# Altium integrated library Librería.IntLib: 116 symbols
Pins are listed as number, name and electrical type; pins without a type are passive.

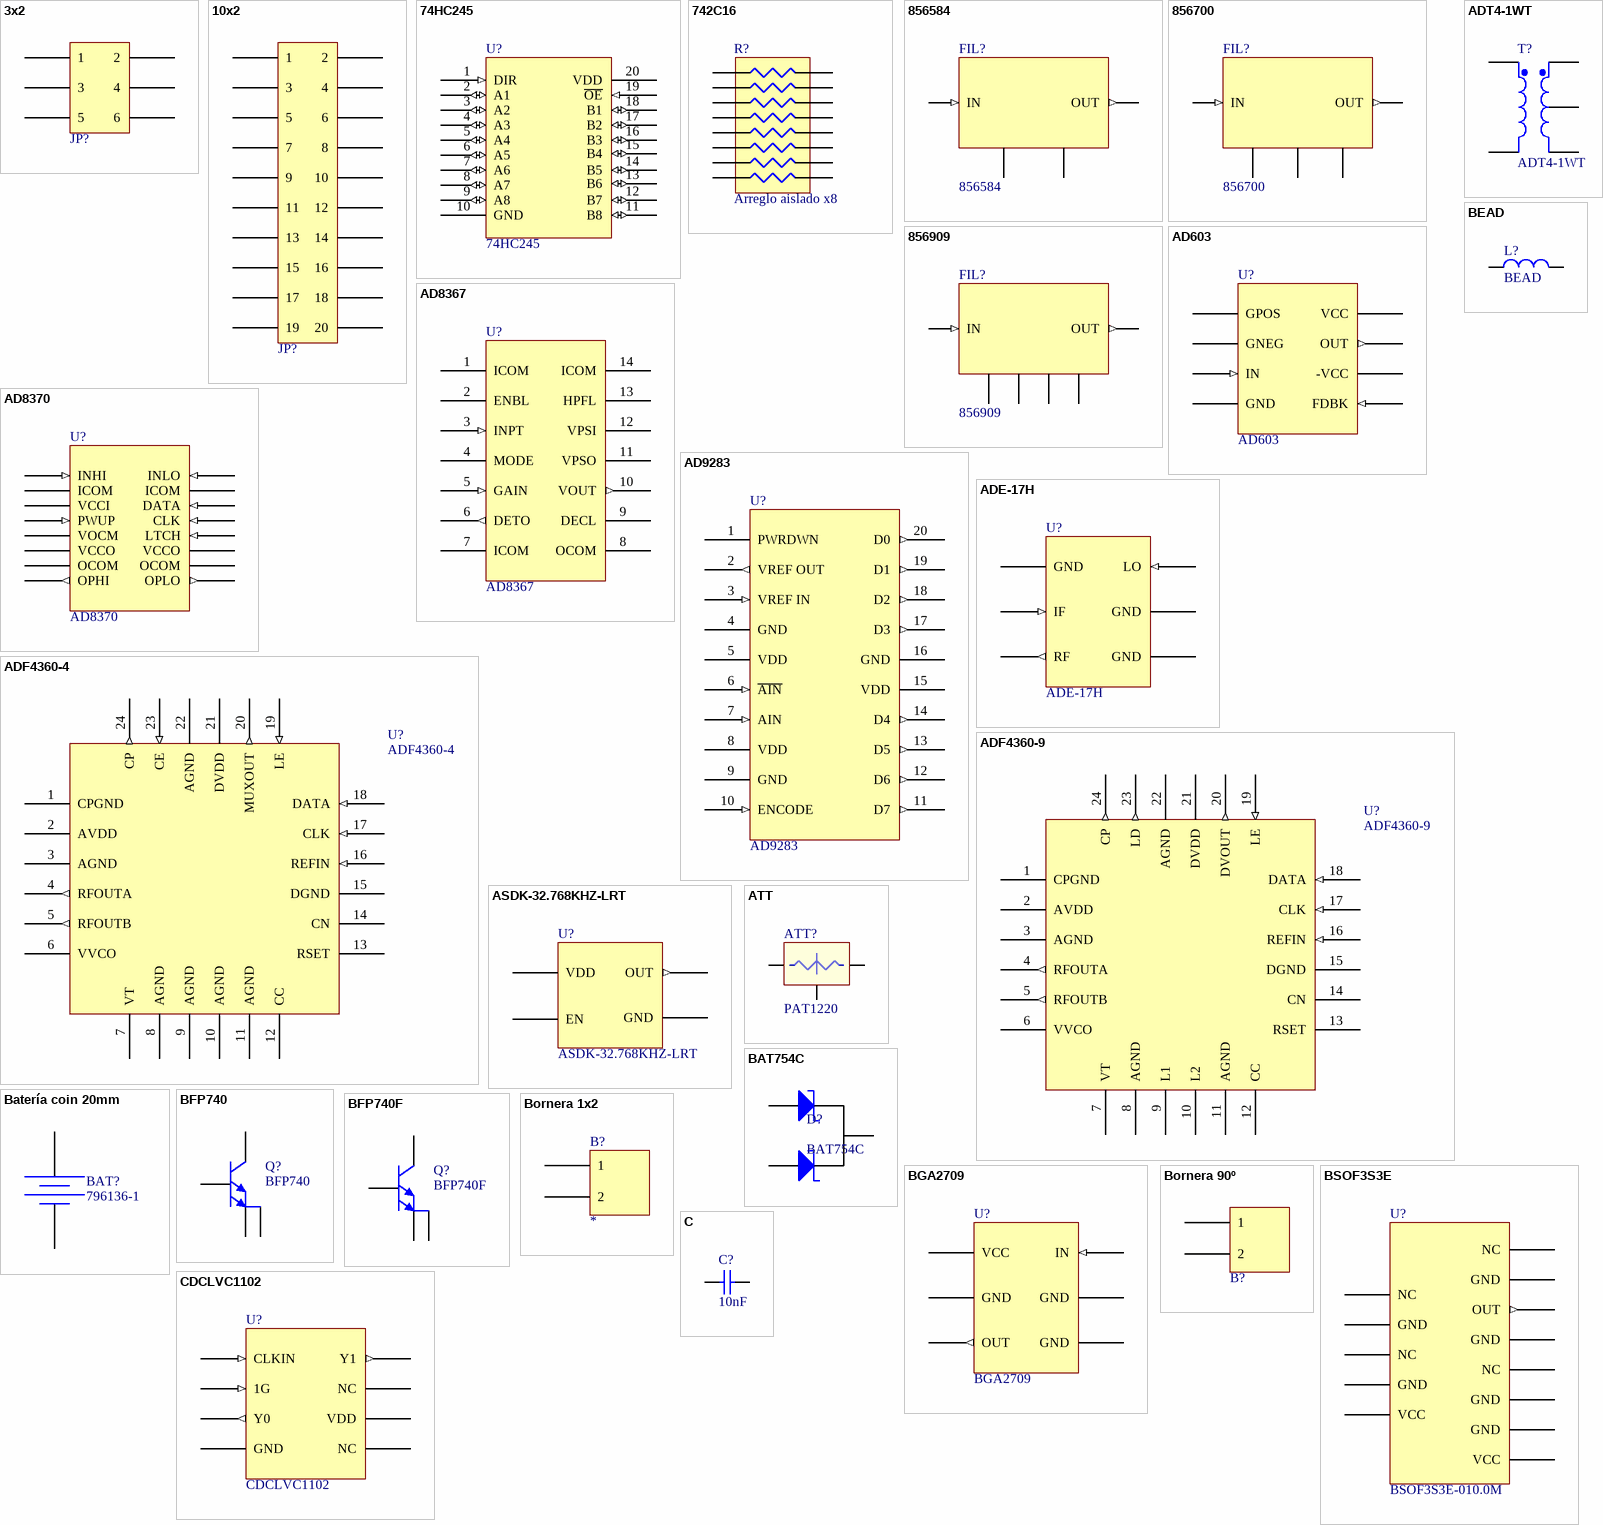
[diagram p0: symbols 3x2 to CDCLVC1102]

## 3x2
designator JP?  (value not drawn)
footprint 3x2
pins: 1, 2, 3, 4, 5, 6

## 10x2
designator JP?  (value not drawn)
footprint 10x2
pins: 1, 2, 3, 4, 5, 6, 7, 8, 9, 10, 11, 12, 13, 14, 15, 16, 17, 18, 19, 20

## 74HC245
designator U?
footprint SO-20
pins: 1 DIR (in), 2 A1 (io), 3 A2 (io), 4 A3 (io), 5 A4 (io), 6 A5 (io), 7 A6 (io), 8 A7 (io), 9 A8 (io), 10 GND, 11 B8 (io), 12 B7 (io), 13 B6 (io), 14 B5 (io), 15 B4 (io), 16 B3 (io), 17 B2 (io), 18 B1 (io), 19 ~{OE} (in), 20 VDD (power)

## 742C16
designator R?, comment Arreglo aislado x8
footprint 742C16
pins: 1, 2, 3, 4, 5, 6, 7, 8, 9, 10, 11, 12, 13, 14, 15, 16

## 856584
designator FIL?
footprint 856584
pins: 1 IN (in), 2 GND, 3 OUT (out), 4 GND

## 856700
designator FIL?
footprint 856700
pins: 1 IN (in), 2 GND, 3 GND, 4 OUT (out), 5 GND

## 856909
designator FIL?
footprint 856909
pins: 1 GND, 2 IN (in), 3 GND, 4 GND, 5 OUT (out), 6 GND

## AD603
designator U?
footprint SO-8
pins: 1 GPOS (power), 2 GNEG (power), 3 IN (in), 4 GND, 5 FDBK (in), 6 -VCC (power), 7 OUT (out), 8 VCC (power)

## AD8367
designator U?
footprint TSSOP-14
pins: 1 ICOM, 2 ENBL, 3 INPT (in), 4 MODE, 5 GAIN (in), 6 DETO (out), 7 ICOM, 8 OCOM, 9 DECL, 10 VOUT (out), 11 VPSO (power), 12 VPSI (power), 13 HPFL, 14 ICOM

## AD8370
designator U?
footprint TSSOP-EP-16
pins: 1 INHI (in), 2 ICOM, 3 VCCI (power), 4 PWUP (in), 5 VOCM, 6 VCCO (power), 7 OCOM, 8 OPHI (out), 9 OPLO (out), 10 OCOM, 11 VCCO (power), 12 LTCH (in), 13 CLK (in), 14 DATA (in), 15 ICOM, 16 INLO (in)

## AD9283
designator U?
footprint SSOP-20
pins: 1 PWRDWN (power), 2 VREF OUT (out), 3 VREF IN (in), 4 GND, 5 VDD (power), 6 ~{AIN} (in), 7 AIN (in), 8 VDD (power), 9 GND, 10 ENCODE (in), 11 D7 (out), 12 D6 (out), 13 D5 (out), 14 D4 (out), 15 VDD (power), 16 GND, 17 D3 (out), 18 D2 (out), 19 D1 (out), 20 D0 (out)

## ADE-17H
designator U?
footprint CD542
pins: 1 GND, 2 IF (in), 3 RF (out), 4 GND, 5 GND, 6 LO (in)

## ADF4360-4
designator U?
footprint LFCSP-24
pins: 1 CPGND, 2 AVDD (power), 3 AGND, 4 RFOUTA (out), 5 RFOUTB (out), 6 VVCO (power), 7 VT (power), 8 AGND, 9 AGND, 10 AGND, 11 AGND, 12 CC, 13 RSET, 14 CN, 15 DGND, 16 REFIN (in), 17 CLK (in), 18 DATA (in), 19 LE (in), 20 MUXOUT (out), 21 DVDD (power), 22 AGND, 23 CE (in), 24 CP (out)

## ADF4360-9
designator U?
footprint LFCSP-24
pins: 1 CPGND, 2 AVDD (power), 3 AGND, 4 RFOUTA (out), 5 RFOUTB (out), 6 VVCO (power), 7 VT (power), 8 AGND, 9 L1, 10 L2, 11 AGND, 12 CC, 13 RSET, 14 CN, 15 DGND, 16 REFIN (in), 17 CLK (in), 18 DATA (in), 19 LE (in), 20 DVOUT (out), 21 DVDD (power), 22 AGND, 23 LD (out), 24 CP (out)

## ADT4-1WT
designator T?
footprint CD542
pins: 1 Pri-, 3 Pri+, 4 Sec+, 5 SecCT, 6 Sec-

## ASDK-32.768KHZ-LRT
designator U?
footprint ASDK-32.768KHZ
pins: 1 EN, 2 GND, 3 OUT (out), 4 VDD (power)

## ATT
designator ATT?, comment PAT1220
footprint PAT1220
pins: 1, 2, 3

## BAT754C
designator D?
footprint SOT23-3
pins: 1 A, 2 A, 3 K

## Batería coin 20mm
designator BAT?, comment 796136-1
footprint coin20mm
pins: 1 +, 2 -

## BEAD
designator L?
footprint 0805_mod
pins: 1, 2

## BFP740
designator Q?
footprint SOT-343(1)
pins: 1 B, 2 E, 3 C, 4 E

## BFP740F
designator Q?
footprint TSFP-4
pins: 1 B, 2 E, 3 C, 4 E

## BGA2709
designator U?
footprint SOT-363
pins: 1 VCC (power), 2 GND, 3 OUT (out), 4 GND, 5 GND, 6 IN (in)

## Bornera 1x2
designator B?
footprint Bornera
footprint 1716040000
pins: 1, 2

## Bornera 90º
designator B?
footprint Header 2 90º
pins: 1, 2

## BSOF3S3E
designator U?, comment BSOF3S3E-010.0M
footprint BSOF3S3E
pins: 1 NC, 2 GND, 6 NC, 7 GND, 8 VCC (power), 9 VCC, 10 GND, 11 GND, 12 NC, 13 GND, 14 OUT (out), 15 GND, 16 NC

## C
designator C?, comment 10nF
footprint 0603_mod
footprint 0805_mod
footprint 1206_mod
footprint 1206_MOD_SP
pins: 1, 2

## CDCLVC1102
designator U?
footprint TSSOP-8
pins: 1 CLKIN (in), 2 1G (in), 3 Y0 (out), 4 GND, 5 NC, 6 VDD (power), 7 NC, 8 Y1 (out)

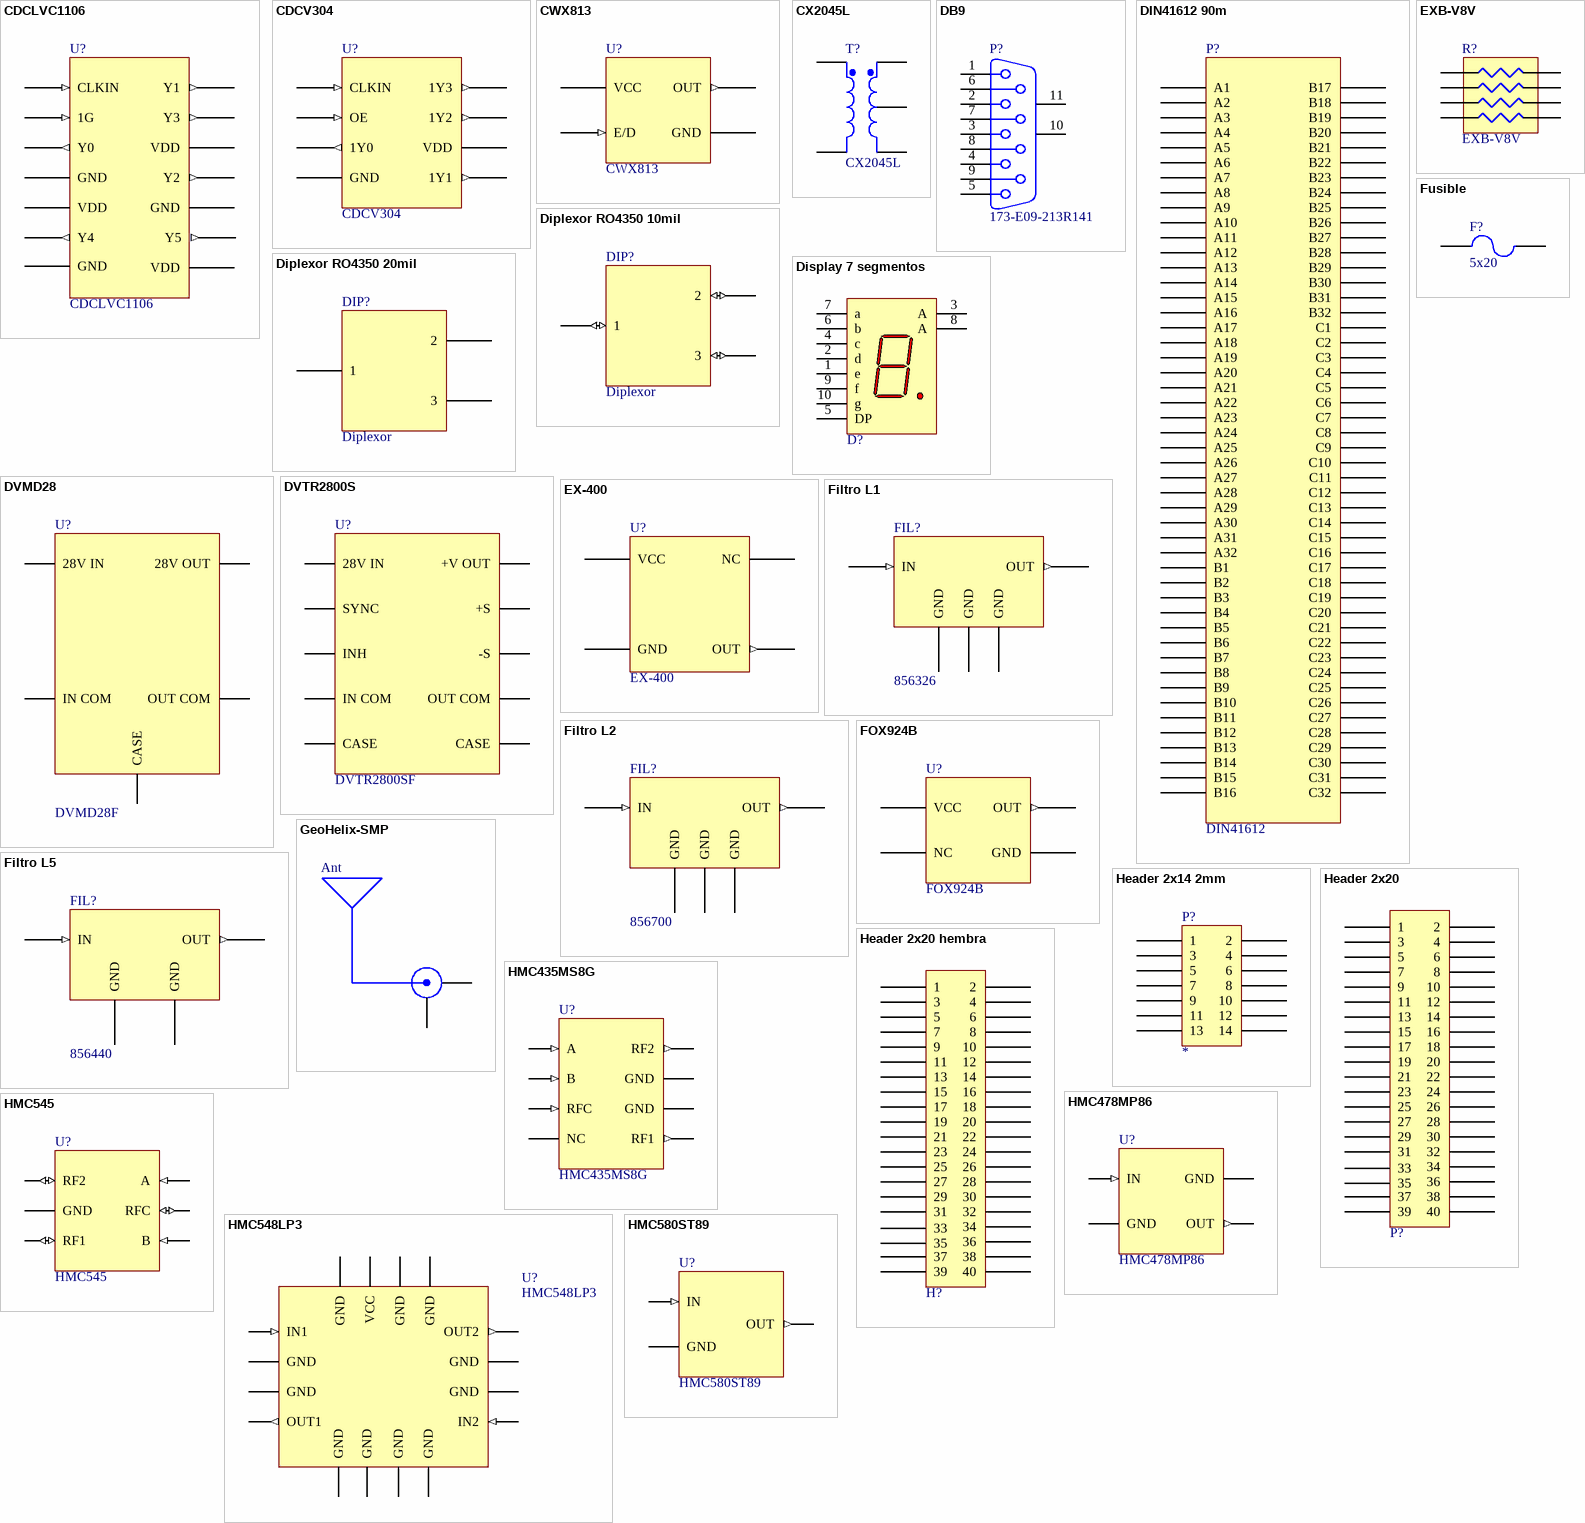
[diagram p1: symbols CDCLVC1106 to HMC580ST89]

## CDCLVC1106
designator U?
footprint TSSOP-14
pins: 1 CLKIN (in), 2 1G (in), 3 Y0 (out), 4 GND, 5 VDD (power), 6 Y4 (out), 7 GND, 8 VDD (power), 9 Y5 (out), 10 GND, 11 Y2 (out), 12 VDD (power), 13 Y3 (out), 14 Y1 (out)

## CDCV304
designator U?
footprint TSSOP-8
pins: 1 CLKIN (in), 2 OE (in), 3 1Y0 (out), 4 GND, 5 1Y1 (out), 6 VDD (power), 7 1Y2 (out), 8 1Y3 (out)

## CWX813
designator U?
footprint CWX813
pins: 1 E/D (in), 2 GND, 3 OUT (out), 4 VCC

## CX2045L
designator T?
footprint CX2045L
pins: 1 Sec+, 2 SecCT, 3 Sec-, 4 Pri-, 6 Pri+

## DB9
designator P?, comment 173-E09-213R141
footprint DB9-0.283
pins: 1, 2, 3, 4, 5, 6, 7, 8, 9, 10 MH1, 11 MH2

## DIN41612 90m
designator P?, comment DIN41612
footprint DIN41612 90m
pins: A1, A2, A3, A4, A5, A6, A7, A8, A9, A10, A11, A12, A13, A14, A15, A16, A17, A18, A19, A20, A21, A22, A23, A24, A25, A26, A27, A28, A29, A30, A31, A32, B1, B2, B3, B4, B5, B6, B7, B8, B9, B10, B11, B12, B13, B14, B15, B16, B17, B18, B19, B20, B21, B22, B23, B24, B25, B26, B27, B28, B29, B30, B31, B32, C1, C2, C3, C4, C5, C6, C7, C8, C9, C10, C11, C12, C13, C14, C15, C16, C17, C18, C19, C20, C21, C22, C23, C24, C25, C26, C27, C28, C29, C30, C31, C32

## Diplexor RO4350 10mil
designator DIP?, comment Diplexor
footprint DIP_RO4350_10mil
footprint DIP_6capas
footprint DIP_MOD2
footprint DIP4
footprint DIP6
footprint DIP_M3GR_6capas
pins: 1 (io), 2 (io), 3 (io)

## Diplexor RO4350 20mil
designator DIP?, comment Diplexor
footprint dip_m3gr_4capas
footprint DIP_M3GR_LNA
pins: 1, 2, 3

## Display 7 segmentos
designator D?  (value not drawn)
footprint 7seg_14.2mm
pins: 1 e "Cathode", 2 d "Cathode", 3 A "Anode", 4 c "Cathode", 5 DP "Cathode", 6 b "Cathode", 7 a "Cathode", 8 A "Anode", 9 f "Cathode", 10 g "Cathode"

## DVMD28
designator U?, comment DVMD28F
footprint DVMD28F
pins: 1 28V IN (power), 2 28V OUT (power), 3 OUT COM (power), 4 CASE (power), 5 IN COM (power)

## DVTR2800S
designator U?, comment DVTR2800SF
footprint DVTR2800F
pins: 1 28V IN (power), 2 INH (power), 3 -S (power), 4 OUT COM (power), 5 +V OUT (power), 6 +S (power), 7 CASE (power), 8 CASE (power), 9 SYNC (power), 10 IN COM (power)

## EX-400
designator U?
footprint TypeB
pins: 1 NC, 7 GND, 8 OUT (out), 14 VCC (power)

## EXB-V8V
designator R?
footprint 0603x4
pins: 1, 2, 3, 4, 5, 6, 7, 8

## Filtro L1
designator FIL?, comment 856326
footprint FILTRO
pins: 1 OUT (out), 2 GND, 3 GND, 4 IN (in), 5 GND

## Filtro L2
designator FIL?, comment 856700
footprint FILTRO
pins: 1 IN (in), 2 GND, 3 GND, 4 OUT (out), 5 GND

## Filtro L5
designator FIL?, comment 856440
footprint FILTRO L5
pins: 1 IN (in), 2 GND, 3 OUT (out), 4 GND

## FOX924B
designator U?
footprint FOX924B
pins: 1 NC, 2 GND, 3 OUT (out), 4 VCC

## Fusible
designator F?, comment 5x20
footprint 5x20
footprint 2410
pins: 1, 2

## GeoHelix-SMP
designator Ant
footprint GeoHelix-SMP
pins: 1 Y, 2 X, 3 Y

## Header 2x14 2mm
designator P?
footprint MGRID14
pins: 1, 2, 3, 4, 5, 6, 7, 8, 9, 10, 11, 12, 13, 14

## Header 2x20
designator P?  (value not drawn)
footprint Header 2x20
pins: 1, 2, 3, 4, 5, 6, 7, 8, 9, 10, 11, 12, 13, 14, 15, 16, 17, 18, 19, 20, 21, 22, 23, 24, 25, 26, 27, 28, 29, 30, 31, 32, 33, 34, 35, 36, 37, 38, 39, 40

## Header 2x20 hembra
designator H?  (value not drawn)
footprint HEADER 2X20 HEMBRA
pins: 1, 2, 3, 4, 5, 6, 7, 8, 9, 10, 11, 12, 13, 14, 15, 16, 17, 18, 19, 20, 21, 22, 23, 24, 25, 26, 27, 28, 29, 30, 31, 32, 33, 34, 35, 36, 37, 38, 39, 40

## HMC435MS8G
designator U?
footprint SOIC-8 EP
pins: 1 A (in), 2 B (in), 3 RFC (in), 4 NC, 5 RF1 (out), 6 GND, 7 GND, 8 RF2 (out)

## HMC478MP86
designator U?
footprint SOT-86
pins: 1 IN (in), 2 GND, 3 OUT (out), 4 GND

## HMC545
designator U?
footprint SOT23-6
pins: 1 RF2 (io), 2 GND, 3 RF1 (io), 4 B (in), 5 RFC (io), 6 A (in)

## HMC548LP3
designator U?
footprint QFN-16 (QFN, 16-Leads, Body 3,1x3,1mm (max), Pitch 0,50mm, IPC Medium Density)
pins: 1 IN1 (in), 2 GND, 3 GND, 4 OUT1 (out), 5 GND, 6 GND, 7 GND, 8 GND, 9 IN2 (in), 10 GND, 11 GND, 12 OUT2 (out), 13 GND, 14 GND, 15 VCC (power), 16 GND

## HMC580ST89
designator U?
footprint SOT-89
pins: 1 IN (in), 2 GND, 3 OUT (out)

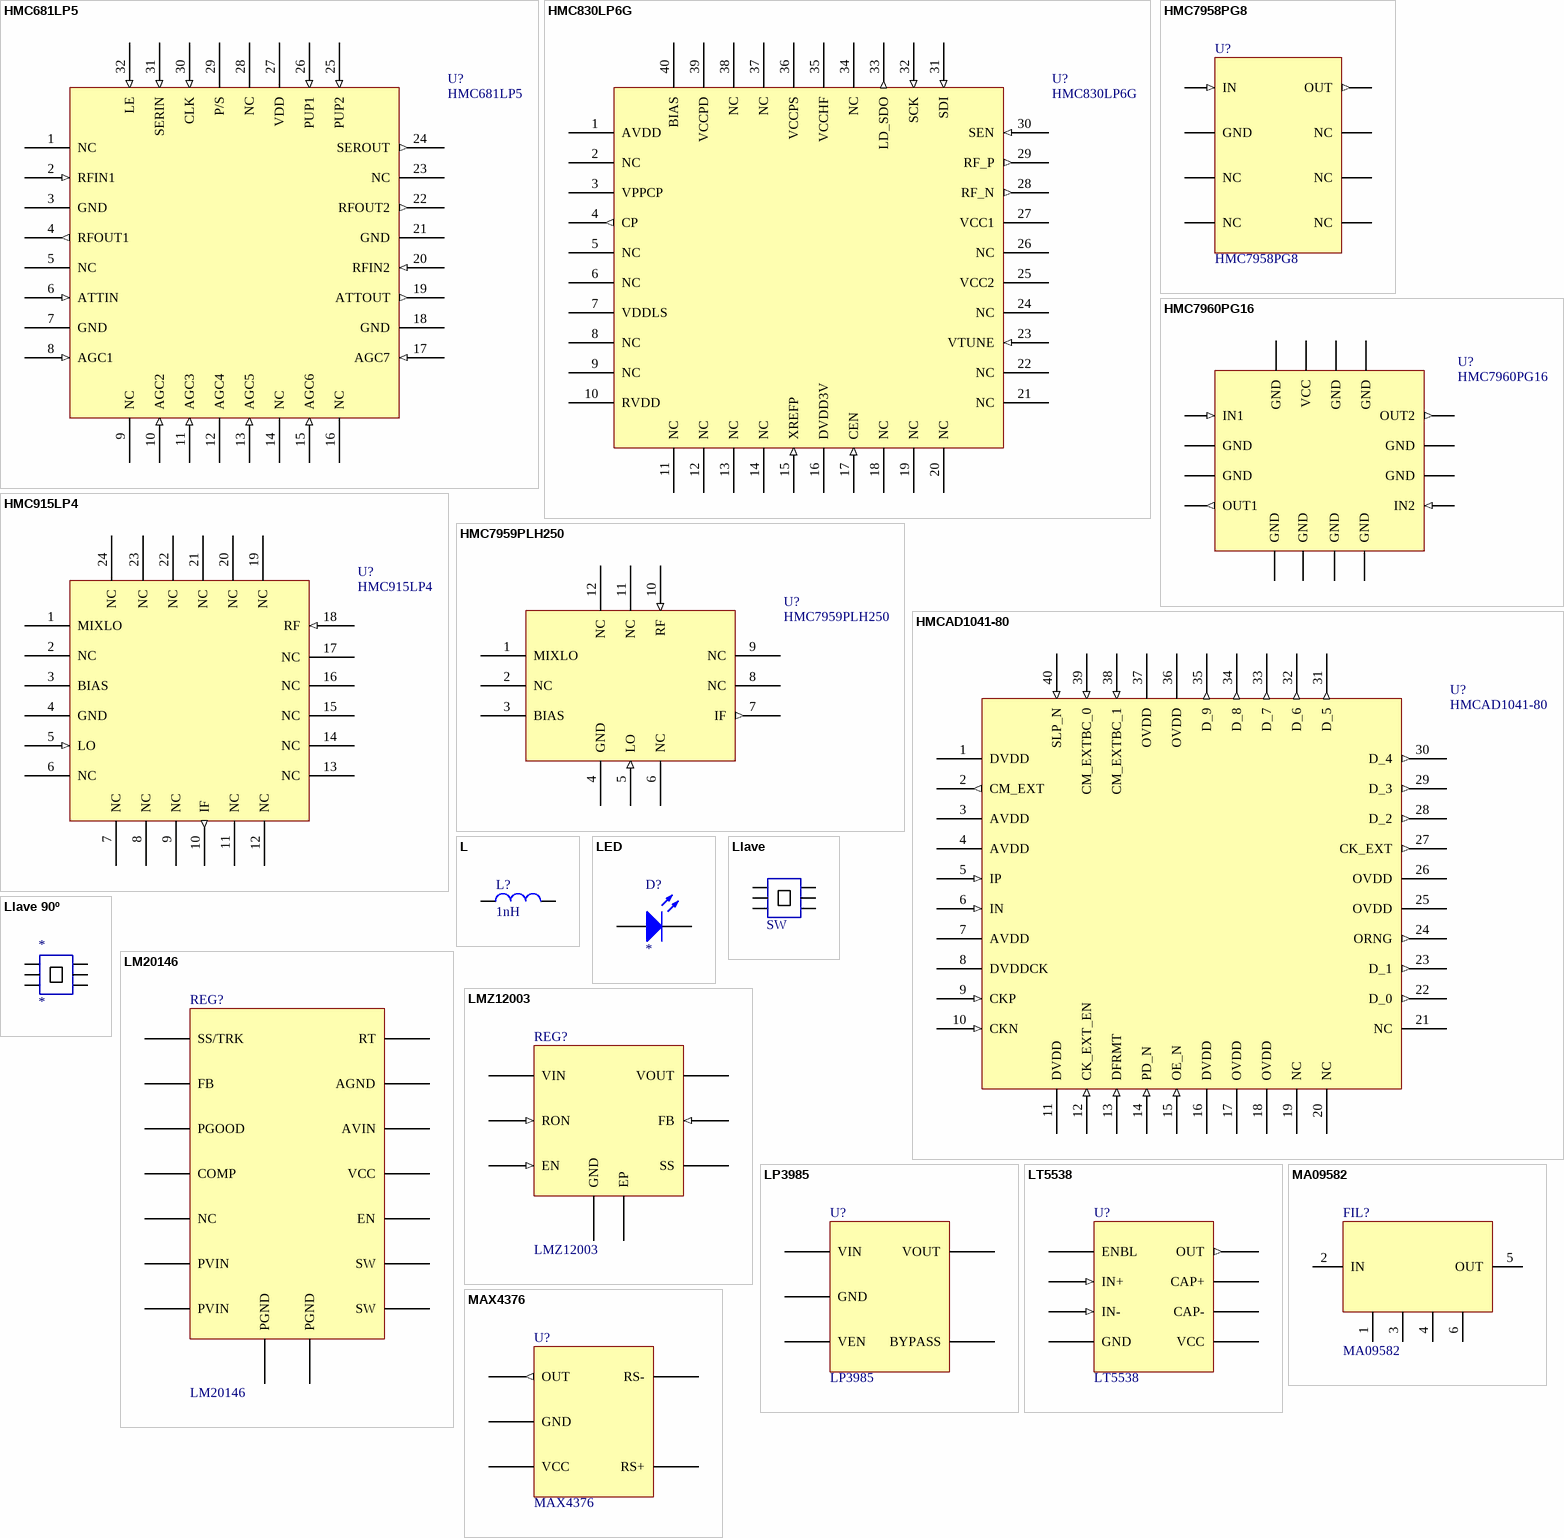
[diagram p2: symbols HMC681LP5 to MAX4376]

## HMC681LP5
designator U?
footprint QFN-32 (QFN, 32-Leads, Body 5,1x5,1mm (max), Pitch 0,50mm, IPC Low Density)
pins: 1 NC, 2 RFIN1 (in), 3 GND, 4 RFOUT1 (out), 5 NC, 6 ATTIN (in), 7 GND, 8 AGC1 (in), 9 NC, 10 AGC2 (in), 11 AGC3 (in), 12 AGC4, 13 AGC5 (in), 14 NC, 15 AGC6 (in), 16 NC, 17 AGC7 (in), 18 GND, 19 ATTOUT (out), 20 RFIN2 (in), 21 GND, 22 RFOUT2 (out), 23 NC, 24 SEROUT (out), 25 PUP2 (in), 26 PUP1 (in), 27 VDD (power), 28 NC, 29 P/S (power), 30 CLK (in), 31 SERIN (in), 32 LE (in)

## HMC830LP6G
designator U?
footprint QFN-40
pins: 1 AVDD (power), 2 NC, 3 VPPCP (power), 4 CP (out), 5 NC, 6 NC, 7 VDDLS (power), 8 NC, 9 NC, 10 RVDD (power), 11 NC, 12 NC, 13 NC, 14 NC, 15 XREFP (in), 16 DVDD3V (power), 17 CEN (in), 18 NC, 19 NC, 20 NC, 21 NC, 22 NC, 23 VTUNE (in), 24 NC, 25 VCC2 (power), 26 NC, 27 VCC1 (power), 28 RF_N (out), 29 RF_P (out), 30 SEN (in), 31 SDI (in), 32 SCK (in), 33 LD_SDO (out), 34 NC, 35 VCCHF (power), 36 VCCPS (power), 37 NC, 38 NC, 39 VCCPD (power), 40 BIAS (power)

## HMC915LP4
designator U?
footprint QFN-24 (QFN, 24-Leads, Body 4,1x4,1mm (max), Pitch 0,50mm, IPC Low Density)
pins: 1 MIXLO (power), 2 NC, 3 BIAS (power), 4 GND, 5 LO (in), 6 NC, 7 NC, 8 NC, 9 NC, 10 IF (out), 11 NC, 12 NC, 13 NC, 14 NC, 15 NC, 16 NC, 17 NC, 18 RF (in), 19 NC, 20 NC, 21 NC, 22 NC, 23 NC, 24 NC

## HMC7958PG8
designator U?
footprint G8
pins: 1 IN (in), 2 GND, 3 NC, 4 NC, 5 NC, 6 NC, 7 NC, 8 OUT (out)

## HMC7959PLH250
designator U?
footprint LH250
pins: 1 MIXLO (power), 2 NC, 3 BIAS (power), 4 GND, 5 LO (in), 6 NC, 7 IF (out), 8 NC, 9 NC, 10 RF (in), 11 NC, 12 NC

## HMC7960PG16
designator U?
footprint G16
pins: 1 IN1 (in), 2 GND, 3 GND, 4 OUT1 (out), 5 GND, 6 GND, 7 GND, 8 GND, 9 IN2 (in), 10 GND, 11 GND, 12 OUT2 (out), 13 GND, 14 GND, 15 VCC (power), 16 GND

## HMCAD1041-80
designator U?
footprint QFN-40
pins: 1 DVDD (power), 2 CM_EXT (out), 3 AVDD (power), 4 AVDD (power), 5 IP (in), 6 IN (in), 7 AVDD (power), 8 DVDDCK, 9 CKP (in), 10 CKN (in), 11 DVDD (power), 12 CK_EXT_EN (in), 13 DFRMT (in), 14 PD_N (in), 15 OE_N (in), 16 DVDD (power), 17 OVDD (power), 18 OVDD (power), 19 NC, 20 NC, 21 NC, 22 D_0 (out), 23 D_1 (out), 24 ORNG (out), 25 OVDD (power), 26 OVDD (power), 27 CK_EXT (out), 28 D_2 (out), 29 D_3 (out), 30 D_4 (out), 31 D_5 (out), 32 D_6 (out), 33 D_7 (out), 34 D_8 (out), 35 D_9 (out), 36 OVDD (power), 37 OVDD (power), 38 CM_EXTBC_1 (in), 39 CM_EXTBC_0 (in), 40 SLP_N (in)

## L
designator L?, comment 1nH
footprint 0603_mod
footprint 0805_mod
footprint 1206_MOD_SP
footprint 2020
pins: 1, 2

## LED
designator D?
footprint 0805_mod
pins: 1 A, 2 K

## Llave
designator SW  (value not drawn)
footprint LLAVE
pins: 1, 2, 3, 4, 5, 6

## Llave 90º
designator *
footprint SWITCH90
pins: 1, 2, 3, 4, 5, 6

## LM20146
designator REG?
footprint HTSSOP-16
pins: 1 SS/TRK (power), 2 FB (power), 3 PGOOD (oc), 4 COMP (power), 5 NC (power), 6 PVIN (power), 7 PVIN (power), 8 SW (power), 9 SW (power), 10 PGND, 11 PGND, 12 EN (power), 13 VCC (power), 14 AVIN (power), 15 AGND, 16 RT

## LMZ12003
designator REG?
footprint TO-PMOD-7
pins: 0 EP, 1 VIN (power), 2 RON (in), 3 EN (in), 4 GND, 5 SS, 6 FB (in), 7 VOUT (power)

## LP3985
designator U?
footprint SOT23-5
pins: 1 VIN (power), 2 GND, 3 VEN, 4 BYPASS, 5 VOUT (power)

## LT5538
designator U?
footprint DFN8
pins: 1 ENBL (power), 2 IN+ (in), 3 IN- (in), 4 GND, 5 VCC (power), 6 CAP-, 7 CAP+, 8 OUT (out)

## MA09582
designator FIL?
footprint MA09582
pins: 1, 2 IN, 3, 4, 5 OUT, 6

## MAX4376
designator U?
footprint SOT23-5
pins: 1 OUT (out), 2 GND, 3 VCC (power), 4 RS+, 5 RS-

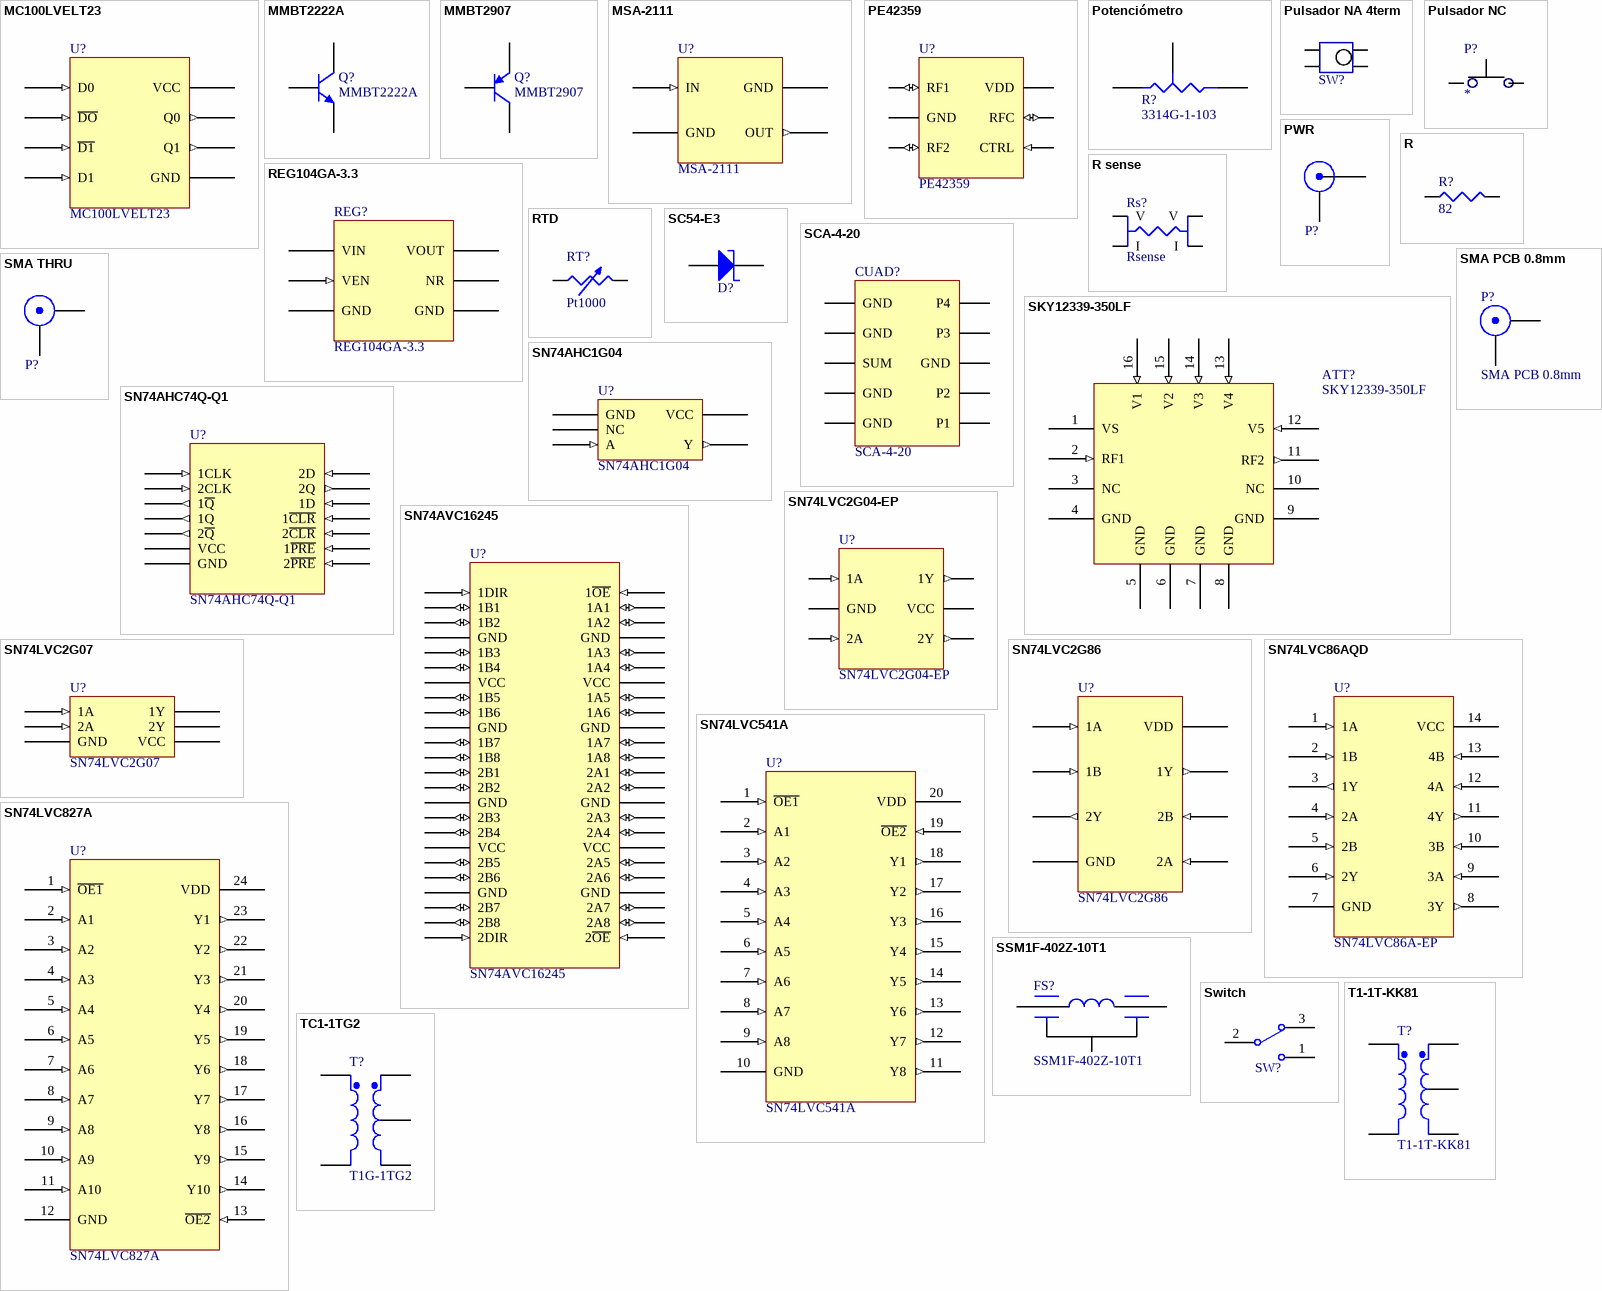
[diagram p3: symbols MC100LVELT23 to TC1-1TG2]

## MC100LVELT23
designator U?
footprint SO-8
pins: 1 D0 (in), 2 ~{DO} (in), 3 ~{D1} (in), 4 D1 (in), 5 GND (power), 6 Q1 (out), 7 Q0 (out), 8 VCC (power)

## MMBT2222A
designator Q?
footprint SOT23-3
pins: 1 B, 2 E, 3 C

## MMBT2907
designator Q?
footprint SOT23-3
pins: 1 B, 2 E, 3 C

## MSA-2111
designator U?
footprint SOT-143
pins: 1 OUT (out), 2 GND, 3 IN (in), 4 GND

## PE42359
designator U?
footprint SC-70
pins: 1 RF1 (io), 2 GND, 3 RF2 (io), 4 CTRL (in), 5 RFC (io), 6 VDD (power)

## Potenciómetro
designator R?, comment 3314G-1-103
footprint 3314G-1
footprint 3314G-1
pins: 1 A, 2 B, 3 TAP

## Pulsador NA 4term
designator SW?  (value not drawn)
footprint SW_4term
pins: 1, 2, 3, 4

## Pulsador NC
designator P?
footprint KSR223
pins: 1, 2

## PWR
designator P?  (value not drawn)
footprint PWR
footprint PJ-036BH-SMT
pins: 1 X, 2 Y

## R
designator R?, comment 82
footprint 0603_mod
footprint 0805_mod
footprint 1206_MOD_SP
pins: 1, 2

## R sense
designator Rs?, comment Rsense
footprint 2010
footprint 2412
pins: 1 V, 2 I, 3 I, 4 V

## REG104GA-3.3
designator REG?
footprint SOT223-5
pins: 1 VIN (power), 2 VOUT (power), 3 GND, 4 NR, 5 VEN (in), 6 GND

## RTD
designator RT?, comment Pt1000
footprint 1206_MOD_SP
pins: 1, 2

## SC54-E3
designator D?  (value not drawn)
footprint DO-214AB
pins: 1 A, 2 K

## SCA-4-20
designator CUAD?
footprint DZ944
pins: 1 GND, 2 GND, 3 SUM, 4 GND, 5 GND, 6 P1, 7 P2, 8 GND, 9 P3, 10 P4

## SKY12339-350LF
designator ATT?
footprint QFN-16
pins: 1 VS (power), 2 RF1 (in), 3 NC, 4 GND, 5 GND, 6 GND, 7 GND, 8 GND, 9 GND, 10 NC, 11 RF2 (out), 12 V5 (in), 13 V4 (in), 14 V3 (in), 15 V2 (in), 16 V1 (in)

## SMA PCB 0.8mm
designator P?
footprint SMA PCB 0.8mm
pins: 1 X, 2 Y

## SMA THRU
designator P?  (value not drawn)
footprint SMA THRU
pins: 1 X, 2 Y

## SN74AHC1G04
designator U?
footprint SOT23-5
pins: 1 NC, 2 A (in), 3 GND, 4 Y (out), 5 VCC (power)

## SN74AHC74Q-Q1
designator U?
footprint TSSOP-14
pins: 1 1~{CLR} (in), 2 1D (in), 3 1CLK (in), 4 1~{PRE} (in), 5 1Q (out), 6 1~{Q} (out), 7 GND, 8 2~{Q} (out), 9 2Q (out), 10 2~{PRE} (in), 11 2CLK (in), 12 2D (in), 13 2~{CLR} (in), 14 VCC (power)

## SN74AVC16245
designator U?
footprint TSSOP-48
pins: 1 1DIR (in), 2 1B1 (io), 3 1B2 (io), 4 GND, 5 1B3 (io), 6 1B4 (io), 7 VCC (power), 8 1B5 (io), 9 1B6 (io), 10 GND, 11 1B7 (io), 12 1B8 (io), 13 2B1 (io), 14 2B2 (io), 15 GND, 16 2B3 (io), 17 2B4 (io), 18 VCC (power), 19 2B5 (io), 20 2B6 (io), 21 GND, 22 2B7 (io), 23 2B8 (io), 24 2DIR (in), 25 2~{OE} (in), 26 2A8 (io), 27 2A7 (io), 28 GND, 29 2A6 (io), 30 2A5 (io), 31 VCC (power), 32 2A4 (io), 33 2A3 (io), 34 GND, 35 2A2 (io), 36 2A1 (io), 37 1A8 (io), 38 1A7 (io), 39 GND, 40 1A6 (io), 41 1A5 (io), 42 VCC (power), 43 1A4 (io), 44 1A3 (io), 45 GND, 46 1A2 (io), 47 1A1 (io), 48 1~{OE} (in)

## SN74LVC2G04-EP
designator U?
footprint SC-70
pins: 1 1A (in), 2 GND, 3 2A (in), 4 2Y (out), 5 VCC (power), 6 1Y (out)

## SN74LVC2G07
designator U?
footprint SOT23-6
pins: 1 1A (in), 2 GND, 3 2A (in), 4 2Y (oc), 5 VCC (power), 6 1Y (oc)

## SN74LVC2G86
designator U?
footprint SM-8
pins: 1 1A (in), 2 1B (in), 3 2Y (out), 4 GND, 5 2A (in), 6 2B (in), 7 1Y (out), 8 VDD (power)

## SN74LVC86AQD
designator U?, comment SN74LVC86A-EP
footprint SOIC-14
pins: 1 1A (in), 2 1B (in), 3 1Y (out), 4 2A (in), 5 2B (in), 6 2Y (in), 7 GND, 8 3Y (out), 9 3A (in), 10 3B (in), 11 4Y (out), 12 4A (in), 13 4B (in), 14 VCC (power)

## SN74LVC541A
designator U?
footprint SSOP-20
pins: 1 ~{OE1} (in), 2 A1 (in), 3 A2 (in), 4 A3 (in), 5 A4 (in), 6 A5 (in), 7 A6 (in), 8 A7 (in), 9 A8 (in), 10 GND, 11 Y8 (out), 12 Y7 (out), 13 Y6 (out), 14 Y5 (out), 15 Y4 (out), 16 Y3 (out), 17 Y2 (out), 18 Y1 (out), 19 ~{OE2} (in), 20 VDD (power)

## SN74LVC827A
designator U?
footprint SSOP-24
pins: 1 ~{OE1} (in), 2 A1 (in), 3 A2 (in), 4 A3 (in), 5 A4 (in), 6 A5 (in), 7 A6 (in), 8 A7 (in), 9 A8 (in), 10 A9 (in), 11 A10 (in), 12 GND, 13 ~{OE2} (in), 14 Y10 (out), 15 Y9 (out), 16 Y8 (out), 17 Y7 (out), 18 Y6 (out), 19 Y5 (out), 20 Y4 (out), 21 Y3 (out), 22 Y2 (out), 23 Y1 (out), 24 VDD (power)

## SSM1F-402Z-10T1
designator FS?
footprint SSM
pins: 1, 2, 3

## Switch
designator SW?
footprint 100SP1T2B4M6QE
pins: 1, 2, 3

## T1-1T-KK81
designator T?
footprint KK81
pins: 1 Pri-, 3 Pri+, 4 Sec+, 5 SecCT, 6 Sec-

## TC1-1TG2
designator T?, comment T1G-1TG2
footprint AT224-3
pins: 1 Sec+, 2 SecCT, 3 Sec-, 4 Pri-, 6 Pri+

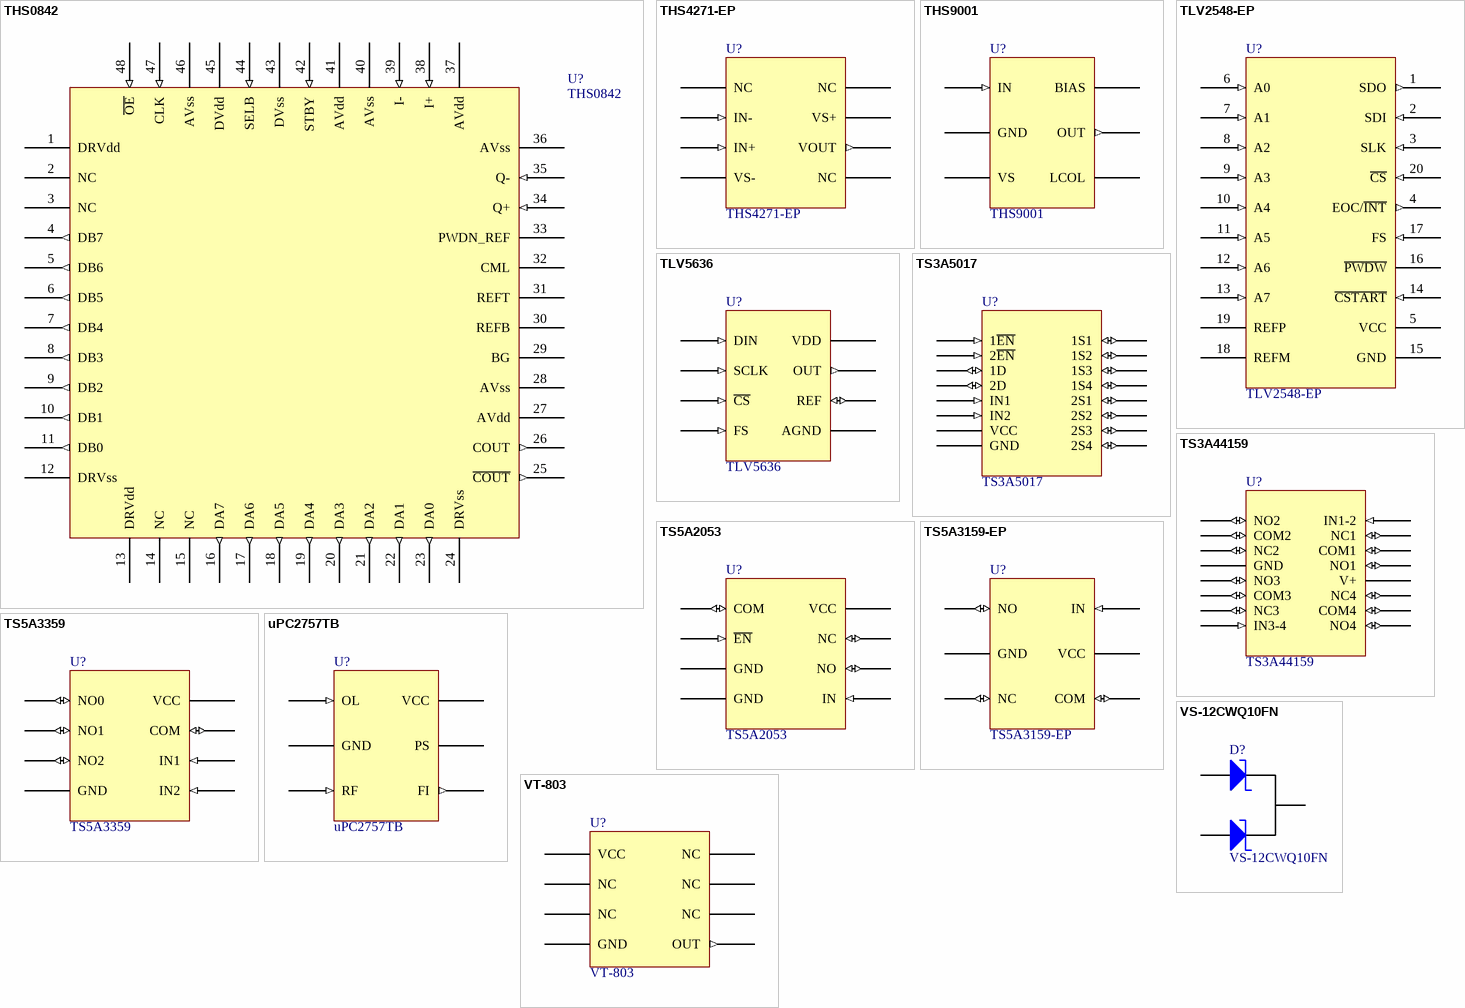
[diagram p4: symbols THS0842 to VT-803]

## THS0842
designator U?
footprint TQFP-48
pins: 1 DRVdd (power), 2 NC, 3 NC, 4 DB7 (out), 5 DB6 (out), 6 DB5 (out), 7 DB4 (out), 8 DB3 (out), 9 DB2 (out), 10 DB1 (out), 11 DB0 (out), 12 DRVss, 13 DRVdd (power), 14 NC, 15 NC, 16 DA7 (out), 17 DA6 (out), 18 DA5 (out), 19 DA4 (out), 20 DA3 (out), 21 DA2 (out), 22 DA1 (out), 23 DA0 (out), 24 DRVss, 25 ~{COUT} (out), 26 COUT (out), 27 AVdd (power), 28 AVss, 29 BG (power), 30 REFB (power), 31 REFT (power), 32 CML (power), 33 PWDN_REF (power), 34 Q+ (in), 35 Q- (in), 36 AVss, 37 AVdd (power), 38 I+ (in), 39 I- (in), 40 AVss, 41 AVdd (power), 42 STBY (in), 43 DVss, 44 SELB (in), 45 DVdd (power), 46 AVss, 47 CLK (in), 48 ~{OE} (in)

## THS4271-EP
designator U?
footprint MSOP-8EP
pins: 1 NC, 2 IN- (in), 3 IN+ (in), 4 VS- (power), 5 NC, 6 VOUT (out), 7 VS+ (power), 8 NC

## THS9001
designator U?
footprint SOT23-6
pins: 1 IN (in), 2 GND, 3 VS (power), 4 LCOL, 5 OUT (out), 6 BIAS (power)

## TLV2548-EP
designator U?
footprint TSSOP-20
pins: 1 SDO (out), 2 SDI (in), 3 SLK (in), 4 EOC/~{INT} (out), 5 VCC (power), 6 A0 (in), 7 A1 (in), 8 A2 (in), 9 A3 (in), 10 A4 (in), 11 A5 (in), 12 A6 (in), 13 A7 (in), 14 ~{CSTART} (in), 15 GND, 16 ~{PWDW}, 17 FS (in), 18 REFM, 19 REFP, 20 ~{CS} (in)

## TLV5636
designator U?
footprint SM-8
pins: 1 DIN (in), 2 SCLK (in), 3 ~{CS} (in), 4 FS (in), 5 AGND, 6 REF (io), 7 OUT (out), 8 VDD (power)

## TS3A5017
designator U?
footprint SOIC-16
pins: 1 1~{EN} (in), 2 IN2 (in), 3 1S4 (io), 4 1S3 (io), 5 1S2 (io), 6 1S1 (io), 7 1D (io), 8 GND, 9 2D (io), 10 2S1 (io), 11 2S2 (io), 12 2S3 (io), 13 2S4 (io), 14 IN1 (in), 15 2~{EN} (in), 16 VCC (power)

## TS3A44159
designator U?
footprint TSSOP-16
pins: 1 NO2 (io), 2 COM2 (io), 3 NC2 (io), 4 GND, 5 NO3 (io), 6 COM3 (io), 7 NC3 (io), 8 IN3-4 (in), 9 NO4 (io), 10 COM4 (io), 11 NC4 (io), 12 V+ (power), 13 NO1 (io), 14 COM1 (io), 15 NC1 (io), 16 IN1-2 (in)

## TS5A2053
designator U?
footprint SM-8
pins: 1 COM (io), 2 ~{EN} (in), 3 GND, 4 GND, 5 IN (in), 6 NO (io), 7 NC (io), 8 VCC (power)

## TS5A3159-EP
designator U?
footprint SOT23-6
pins: 1 NO (io), 2 GND, 3 NC (io), 4 COM (io), 5 VCC (power), 6 IN (in)

## TS5A3359
designator U?
footprint US-8
pins: 1 NO0 (io), 2 NO1 (io), 3 NO2 (io), 4 GND, 5 IN2 (in), 6 IN1 (in), 7 COM (io), 8 VCC (power)

## uPC2757TB
designator U?
footprint 6superminimold
pins: 1 RF (in), 2 GND, 3 OL (in), 4 VCC (power), 5 PS (power), 6 FI (out)

## VS-12CWQ10FN
designator D?
footprint TO-252AA
pins: 1 A, 3 A, 4 K

## VT-803
designator U?
footprint VT-803
pins: 1 NC, 2 NC, 3 NC, 4 GND, 5 OUT (out), 6 NC, 7 NC, 8 VCC (power)